# Altium schematic symbol library Microcircuits.SchLib: 29 symbols
Pins are listed as number, name and electrical type; pins without a type are passive.

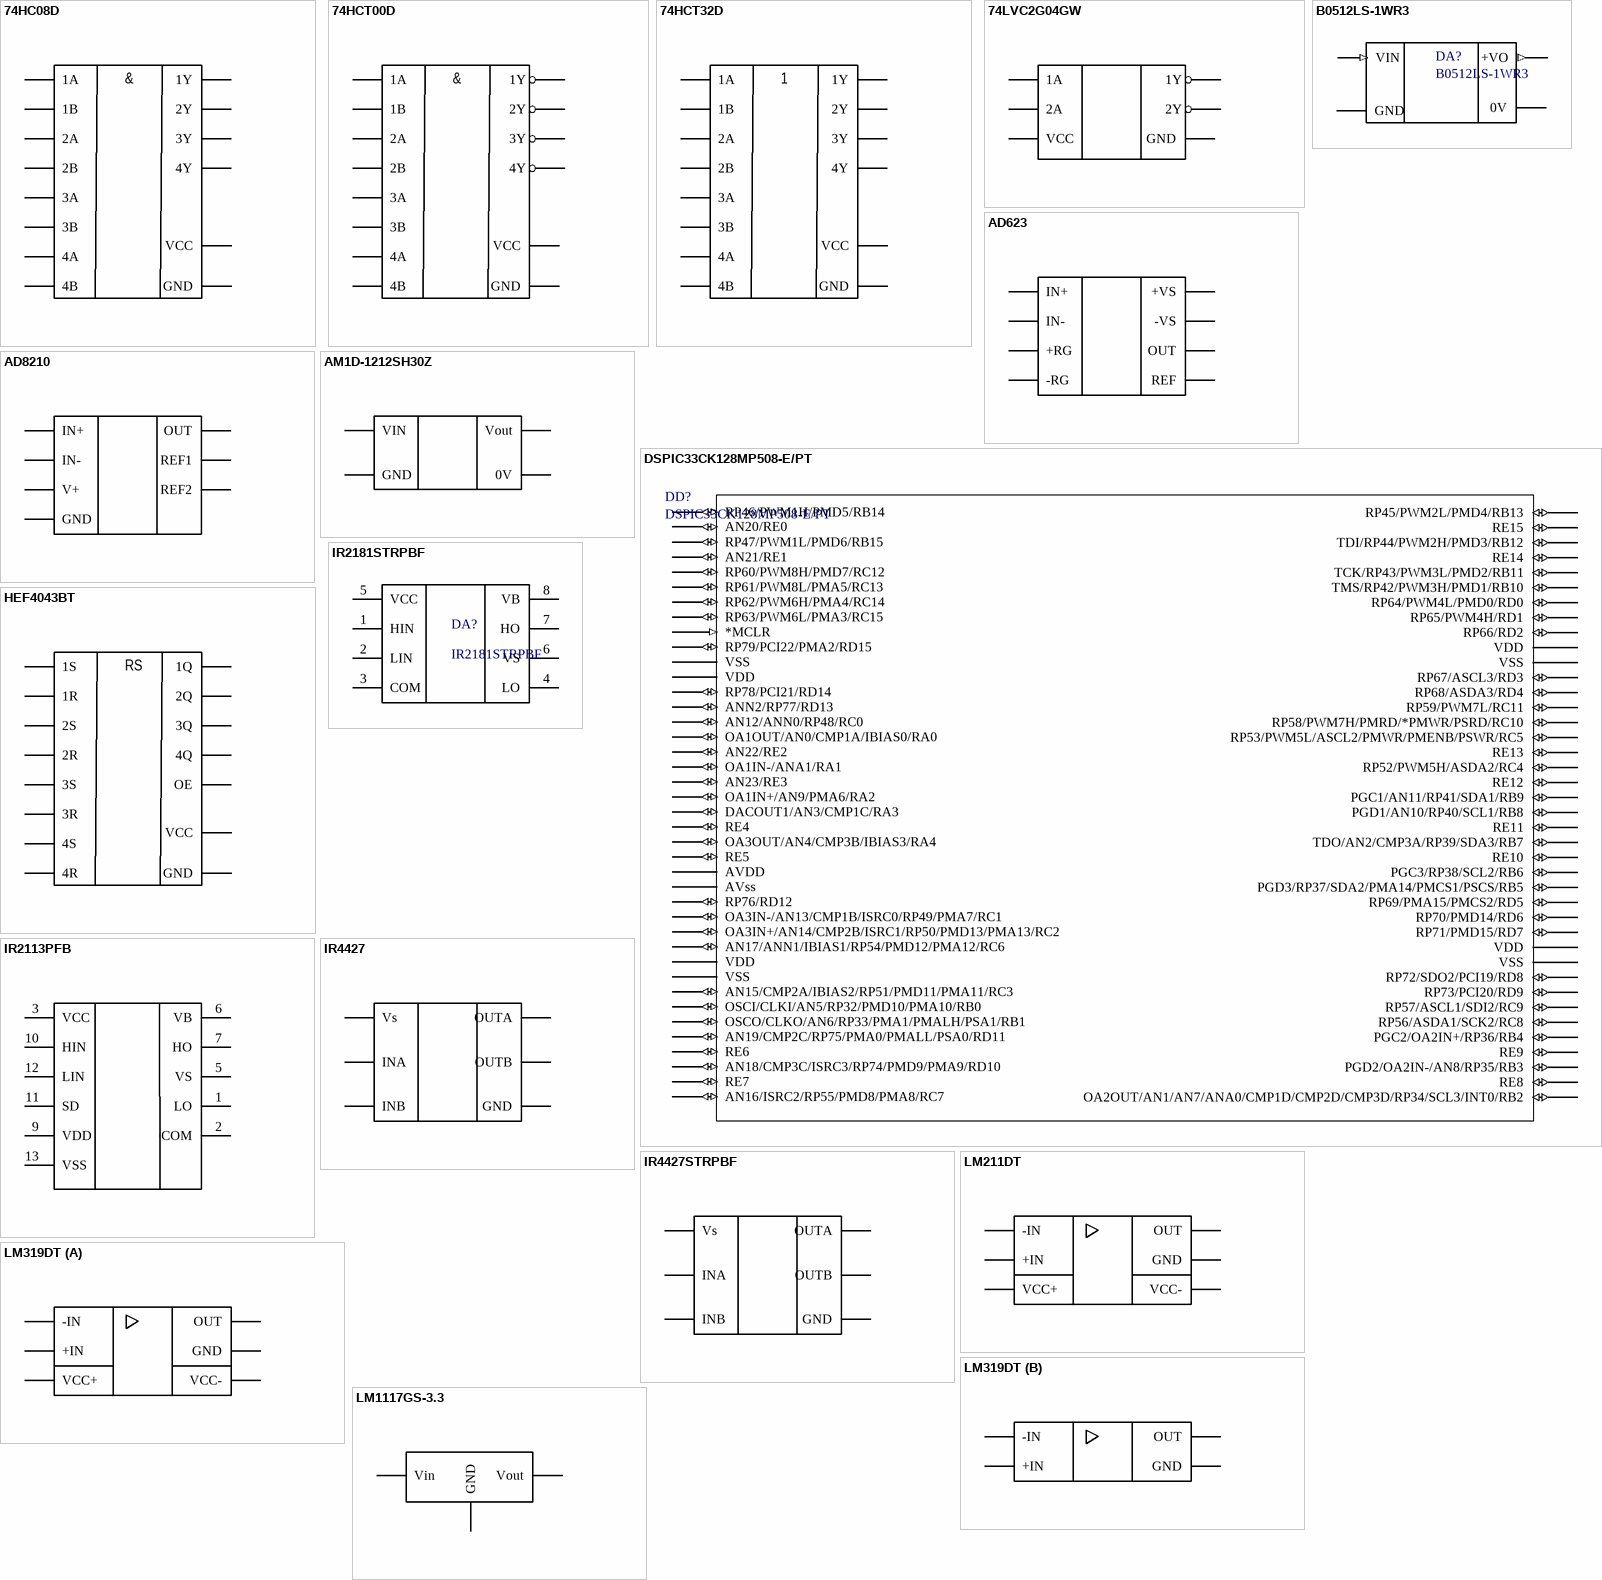
[diagram p0: symbols 74HC08D to LM1117GS-3.3]

## 74HC08D
designator DD?
Логическая ИС, логическая функция 2И [SO-14]; Name: 74HC08D, ф Nexperia B.V.; ComponentLink1Description: Product link; ComponentLink1URL: https://www.chipdip.ru/product/74hc08d
footprint SO14
pins: 1 1A, 2 1B, 3 1Y, 4 2A, 5 2B, 6 2Y, 7 GND, 8 3Y, 9 3A, 10 3B, 11 4Y, 12 4A, 13 4B, 14 VCC
text: &

## 74HCT00D
designator DD?
етыре логических элемента "2И-НЕ"; ComponentLink1Description: Product link; ComponentLink1URL: https://www.chipdip.ru/product/74hct00d
footprint SO14
pins: 1 1A, 2 1B, 3 1Y, 4 2A, 5 2B, 6 2Y, 7 GND, 8 3Y, 9 3A, 10 3B, 11 4Y, 12 4A, 13 4B, 14 VCC
text: &

## 74HCT32D
designator DD?
Логическая ИС, логическая функция 2ИЛИ [SO-14]; Name: 74HCT32D, ф Nexperia B.V.; ComponentLink1Description: Product link; ComponentLink1URL: https://www.chipdip.ru/product/74hct32d-653-nexperia
footprint SO14
pins: 1 1A, 2 1B, 3 1Y, 4 2A, 5 2B, 6 2Y, 7 GND, 8 3Y, 9 3A, 10 3B, 11 4Y, 12 4A, 13 4B, 14 VCC

## 74LVC2G04GW
designator DD?
Двойной инвертер [TSSOP-6]; Name: 74LVC2G04GW, ф Nexperia B.V.; ComponentLink1Description: Product link; ComponentLink1URL: https://www.chipdip.ru/product/74lvc2g04gw-125
footprint SOT-363(TSSOP-6) (SOT363, 6-Leads, Body 2.00x2.10mm, Pitch 0.65mm, IPC Medium Density)
pins: 1 1A, 2 GND, 3 2A, 4 2Y, 5 VCC, 6 1Y

## AD623
designator DA?
ComponentLink1Description: Product link; ComponentLink1URL: https://www.chipdip.ru/product/ad623armz-2
footprint SO8
pins: 1 -RG, 2 IN-, 3 IN+, 4 -VS, 5 REF, 6 OUT, 7 +VS, 8 +RG

## AD8210
designator DA?, comment AD8210YRZ
Name: AD8210YRZ, ф Analog Devices; ComponentLink1Description: Product link; ComponentLink1URL: https://www.chipdip.ru/product/ad8210yrz; Datasheet: https://static.chipdip.ru/lib/693/DOC011693392.pdf
footprint SO8
pins: 1 IN-, 2 GND, 3 REF2, 5 OUT, 6 V+, 7 REF1, 8 IN+

## AM1D-1212SH30Z
designator DA?
Name: B1212LS-1WR, ф Mornsun Guangzhou Science & Technology Co., Ltd; ComponentLink1Description: Product link; ComponentLink1URL: https://www.promelec.ru/product/399314/
footprint AM1D-Z
pins: 1 VIN, 2 GND, 3 0V, 4 Vout

## B0512LS-1WR3
designator DA?
DC/DC Converter; MF: {'manufacturer': u'Mornsun America, LLC'}; Name: B0512LS-1WR3, ф. Mornsun Guangzhou Science & Technology Co., Ltd; Package: None; Price: None; Value: *; MP: B0512LS-1WR3; Availability: Unavailable
footprint CONV_B0512LS-1WR3
pins: 1 VIN (in), 2 GND (power), 4 0V, 6 +VO (out)

## DSPIC33CK128MP508-E/PT
designator DD?
No Description Available; Mfr_Name: Microchip; Copyright: Copyright (C) 2023 Ultra Librarian. All rights reserved.; Manufacturer_Part_Number: DSPIC33CK128MP508-E/PT; RefDes: RefDes; Type: DEV
footprint TQFP80_PT_MCH
pins: 1 RP46/PWM1H/PMD5/RB14 (io), 2 AN20/RE0 (io), 3 RP47/PWM1L/PMD6/RB15 (io), 4 AN21/RE1 (io), 5 RP60/PWM8H/PMD7/RC12 (io), 6 RP61/PWM8L/PMA5/RC13 (io), 7 RP62/PWM6H/PMA4/RC14 (io), 8 RP63/PWM6L/PMA3/RC15 (io), 9 *MCLR (in), 10 RP79/PCI22/PMA2/RD15 (io), 11 VSS, 12 VDD (power), 13 RP78/PCI21/RD14 (io), 14 ANN2/RP77/RD13 (io), 15 AN12/ANN0/RP48/RC0 (io), 16 OA1OUT/AN0/CMP1A/IBIAS0/RA0 (io), 17 AN22/RE2 (io), 18 OA1IN-/ANA1/RA1 (io), 19 AN23/RE3 (io), 20 OA1IN+/AN9/PMA6/RA2 (io), 21 DACOUT1/AN3/CMP1C/RA3 (io), 22 RE4 (io), 23 OA3OUT/AN4/CMP3B/IBIAS3/RA4 (io), 24 RE5 (io), 25 AVDD (power), 26 AVss, 27 RP76/RD12 (io), 28 OA3IN-/AN13/CMP1B/ISRC0/RP49/PMA7/RC1 (io), 29 OA3IN+/AN14/CMP2B/ISRC1/RP50/PMD13/PMA13/RC2 (io), 30 AN17/ANN1/IBIAS1/RP54/PMD12/PMA12/RC6 (io), 31 VDD (power), 32 VSS, 33 AN15/CMP2A/IBIAS2/RP51/PMD11/PMA11/RC3 (io), 34 OSCI/CLKI/AN5/RP32/PMD10/PMA10/RB0 (io), 35 OSCO/CLKO/AN6/RP33/PMA1/PMALH/PSA1/RB1 (io), 36 AN19/CMP2C/RP75/PMA0/PMALL/PSA0/RD11 (io), 37 RE6 (io), 38 AN18/CMP3C/ISRC3/RP74/PMD9/PMA9/RD10 (io), 39 RE7 (io), 40 AN16/ISRC2/RP55/PMD8/PMA8/RC7 (io), 41 OA2OUT/AN1/AN7/ANA0/CMP1D/CMP2D/CMP3D/RP34/SCL3/INT0/RB2 (io), 42 RE8 (io), 43 PGD2/OA2IN-/AN8/RP35/RB3 (io), 44 RE9 (io), 45 PGC2/OA2IN+/RP36/RB4 (io), 46 RP56/ASDA1/SCK2/RC8 (io), 47 RP57/ASCL1/SDI2/RC9 (io), 48 RP73/PCI20/RD9 (io), 49 RP72/SDO2/PCI19/RD8 (io), 50 VSS, 51 VDD (power), 52 RP71/PMD15/RD7 (io), 53 RP70/PMD14/RD6 (io), 54 RP69/PMA15/PMCS2/RD5 (io), 55 PGD3/RP37/SDA2/PMA14/PMCS1/PSCS/RB5 (io), 56 PGC3/RP38/SCL2/RB6 (io), 57 RE10 (io), 58 TDO/AN2/CMP3A/RP39/SDA3/RB7 (io), 59 RE11 (io), 60 PGD1/AN10/RP40/SCL1/RB8 (io), 61 PGC1/AN11/RP41/SDA1/RB9 (io), 62 RE12 (io), 63 RP52/PWM5H/ASDA2/RC4 (io), 64 RE13 (io), 65 RP53/PWM5L/ASCL2/PMWR/PMENB/PSWR/RC5 (io), 66 RP58/PWM7H/PMRD/*PMWR/PSRD/RC10 (io), 67 RP59/PWM7L/RC11 (io), 68 RP68/ASDA3/RD4 (io), 69 RP67/ASCL3/RD3 (io), 70 VSS, 71 VDD (power), 72 RP66/RD2 (io), 73 RP65/PWM4H/RD1 (io), 74 RP64/PWM4L/PMD0/RD0 (io), 75 TMS/RP42/PWM3H/PMD1/RB10 (io), 76 TCK/RP43/PWM3L/PMD2/RB11 (io), 77 RE14 (io), 78 TDI/RP44/PWM2H/PMD3/RB12 (io), 79 RE15 (io), 80 RP45/PWM2L/PMD4/RB13 (io)

## HEF4043BT
designator DD?
Триггер RS-типа х 4 [SOIC-16]; Name: HEF4043BT, ф Nexperia B.V.; ComponentLink1Description: Product link; ComponentLink1URL: https://www.chipdip.ru/product/hef4043bt-652-nexperia
footprint SO16
pins: 1 4Q, 2 1Q, 3 1R, 4 1S, 5 OE, 6 2S, 7 2R, 8 GND, 9 2Q, 10 3Q, 11 3R, 12 3S, 14 4S, 15 4R, 16 VCC
text: RS

## IR2113PFB
designator DA?
Name: IR2113PBF, ф. Infineon Technologies; ComponentLink1Description: Product link; ComponentLink1URL: https://www.promelec.ru/product/39435/
footprint SOIC16
footprint DIP14
pins: 1 LO, 2 COM, 3 VCC, 5 VS, 6 VB, 7 HO, 9 VDD, 10 HIN, 11 SD, 12 LIN, 13 VSS

## IR2181STRPBF
designator DA?
ComponentLink1Description: Product link; ComponentLink1URL: https://www.chipdip.ru/product/ir2181strpbf-h-l-driver-600
footprint SO8
pins: 1 HIN, 2 LIN, 3 COM, 4 LO, 5 VCC, 6 VS, 7 HO, 8 VB

## IR4427
designator DD?, comment IR4427PBF
ComponentLink1Description: Product link; ComponentLink1URL: https://www.promelec.ru/product/86311/
footprint DIP8
pins: 2 INA, 3 GND, 4 INB, 5 OUTB, 6 Vs, 7 OUTA

## IR4427STRPBF
designator DA*
Драйвер сдвоенный нижнего плеча 8SOIC; Name: IR4427STRPBF, ф. Infineon Technologies; ComponentLink1Description: Product link; ComponentLink1URL: https://www.promelec.ru/product/203606/
footprint SO8
pins: 2 INA, 3 GND, 4 INB, 5 OUTB, 6 Vs, 7 OUTA

## LM211DT
designator DA?
Компаратор; GOST_Name_1: LM211DT, ф ST Microelectronics; ComponentLink1Description: Product link; ComponentLink1URL: https://www.promelec.ru/product/40196/
footprint SO8
pins: 1 GND, 2 +IN, 3 -IN, 4 VCC-, 7 OUT, 8 VCC+

## LM319DT
designator DA?
Name: LM319DT, ф ST Microelectronics; ComponentLink1Description: Product link; ComponentLink1URL: https://www.promelec.ru/product/154578/
footprint SO14
part A pins: 3 GND, 4 +IN, 5 -IN, 6 VCC-, 11 VCC+, 12 OUT
part B pins: 7 OUT, 8 GND, 9 +IN, 10 -IN

## LM1117GS-3.3
designator DA?
Линейный регулятор с низким падением напряжения, +3.3 В, 1А; Name: LM1117GS-3.3, ф TAEJIN TECHNOLOGY Co., Ltd.; ComponentLink1Description: Product link; ComponentLink1URL: https://www.chipdip.ru/product/lm1117gs-3.3
footprint SOT-223
pins: 1 GND, 2 Vout, 3 Vin

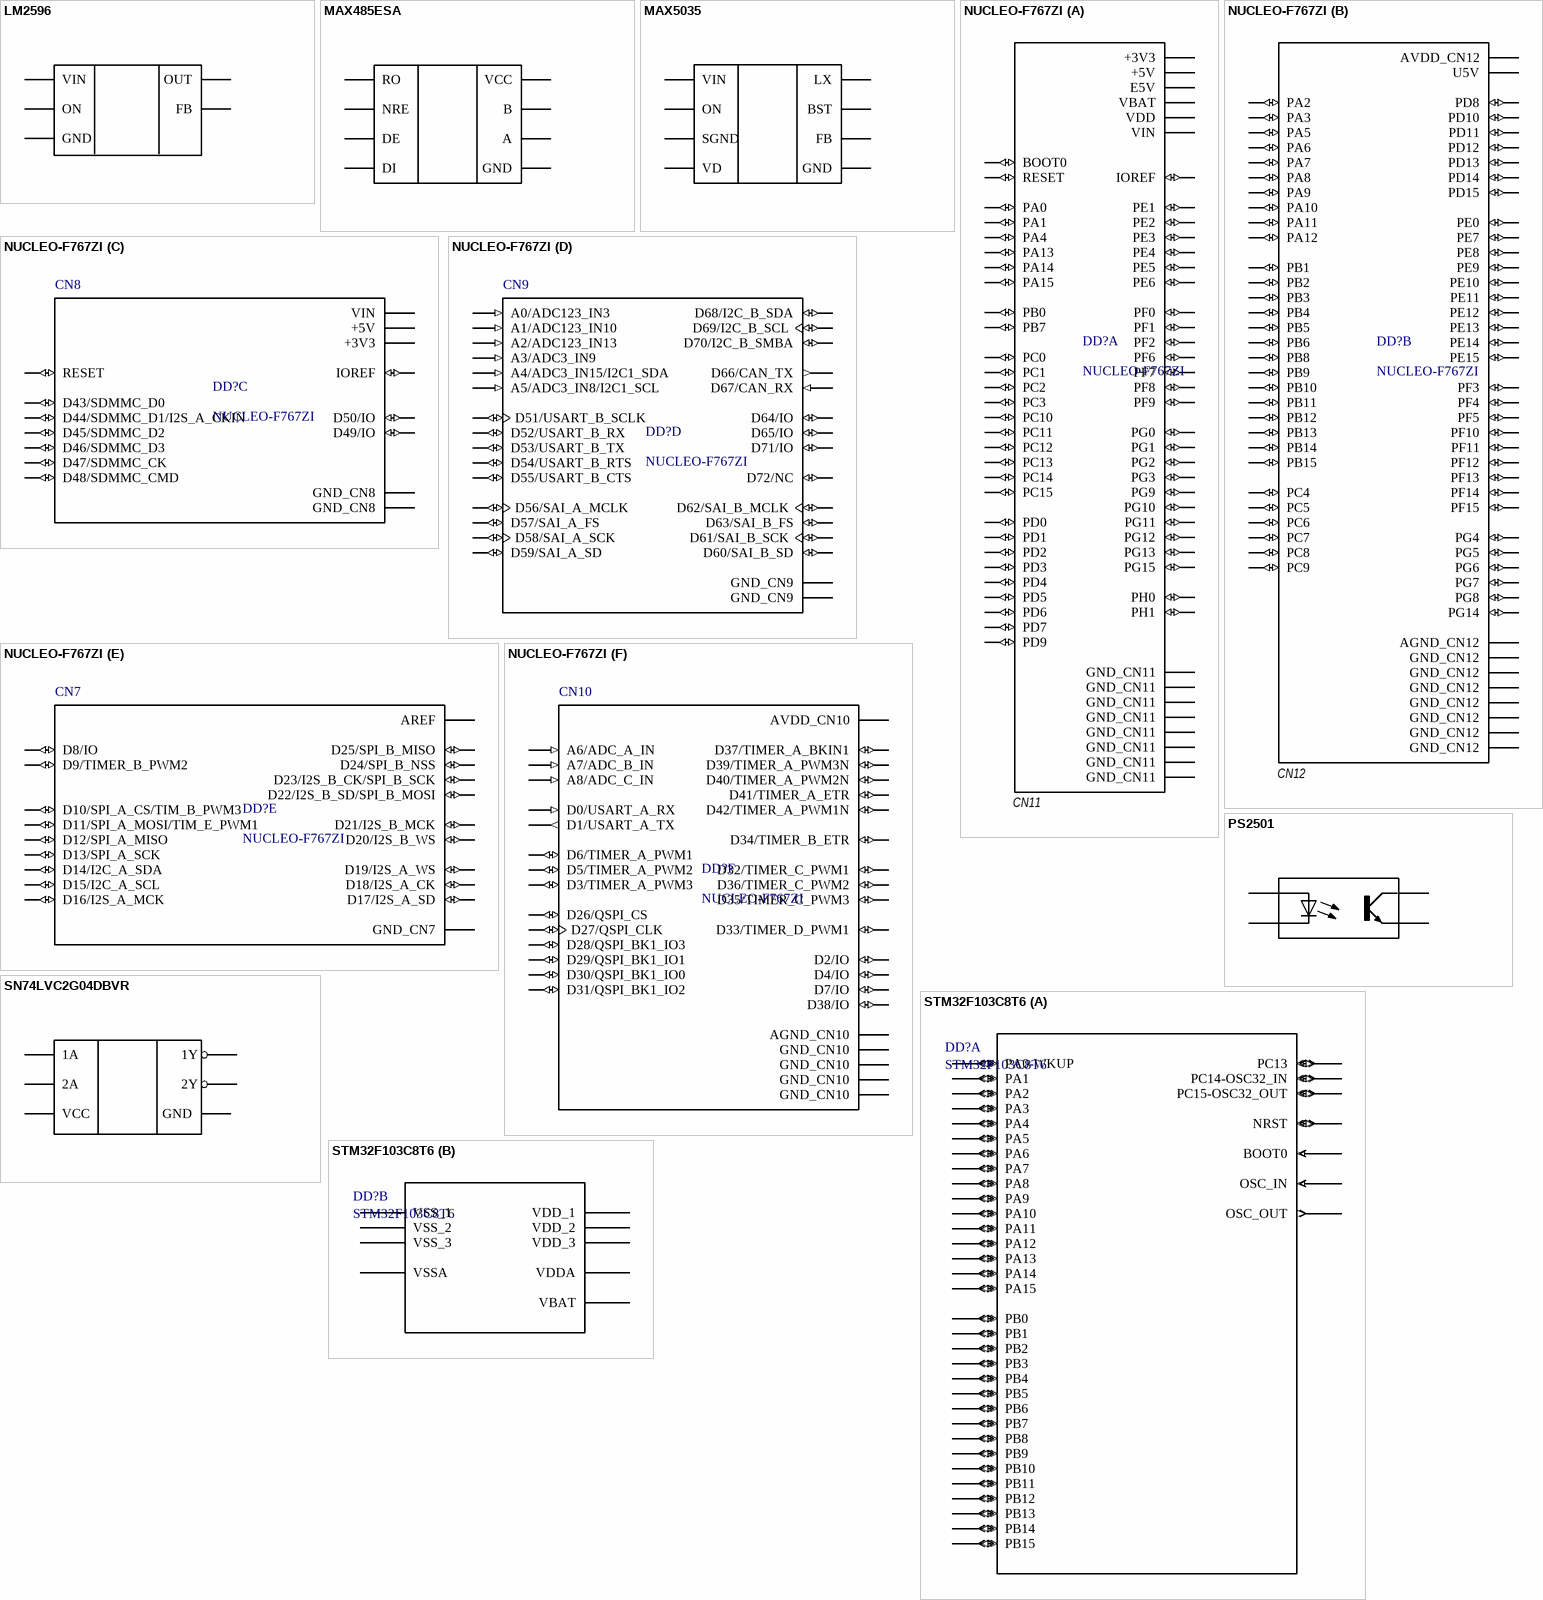
[diagram p1: symbols LM2596 to STM32F103C8T6]

## LM2596
designator DA?
ComponentLink1Description: Product link; ComponentLink1URL: https://www.promelec.ru/search/?query=LM2596; Name: =Comment + "ф.  UMW Youtai Semiconductor"
footprint TO263-5L
pins: 1 VIN, 2 OUT, 3 GND, 4 FB, 5 ON

## MAX485ESA
designator DA?, comment MAX485
GOST_Name_1: MAX485ESA+ ф. Maxim Integrated; ComponentLink1Description: Product link; ComponentLink1URL: https://www.platan.ru/cgi-bin/qwery.pl/id=355590810; Datasheet: https://doc.platan.ru/pdf/datasheets/maxim/MAX1487E-MAX491E-101921.pdf
footprint SO8
pins: 1 RO, 2 NRE, 3 DE, 4 DI, 5 GND, 6 A, 7 B, 8 VCC

## MAX5035
designator DA?
ComponentLink1Description: Product link; ComponentLink1URL: https://www.chipdip.ru/product/max5035basa
footprint SO8
pins: 1 BST, 2 VD, 3 SGND, 4 FB, 5 ON, 6 GND, 7 VIN, 8 LX

## NUCLEO-F767ZI
designator DD?
STM32 Nucleo-144 development board with STM32F767ZI MCU, supports Arduino, ST Zio and morpho connectivity; MF: STMicroelectronics; Name: NUCLEO-F767ZI ф.STMicroelectronics; Package: None; MP: NUCLEO-F767ZI; Price: None; Value: *; Availability: Unavailable
footprint ST_NUCLEO-F767ZI
part A pins: CN11_1 PC10 (io), CN11_2 PC11 (io), CN11_3 PC12 (io), CN11_4 PD2 (io), CN11_5 VDD (power), CN11_6 E5V (power), CN11_7 BOOT0 (io), CN11_8 GND_CN11 (power), CN11_9 PF6 (io), CN11_11 PF7 (io), CN11_12 IOREF (io), CN11_13 PA13 (io), CN11_14 RESET (io), CN11_15 PA14 (io), CN11_16 +3V3 (power), CN11_17 PA15 (io), CN11_18 +5V (power), CN11_19 GND_CN11 (power), CN11_20 GND_CN11 (power), CN11_21 PB7 (io), CN11_22 GND_CN11 (power), CN11_23 PC13 (io), CN11_24 VIN (power), CN11_25 PC14 (io), CN11_27 PC15 (io), CN11_28 PA0 (io), CN11_29 PH0 (io), CN11_30 PA1 (io), CN11_31 PH1 (io), CN11_32 PA4 (io), CN11_33 VBAT (power), CN11_34 PB0 (io), CN11_35 PC2 (io), CN11_36 PC1 (io), CN11_37 PC3 (io), CN11_38 PC0 (io), CN11_39 PD4 (io), CN11_40 PD3 (io), CN11_41 PD5 (io), CN11_42 PG2 (io), CN11_43 PD6 (io), CN11_44 PG3 (io), CN11_45 PD7 (io), CN11_46 PE2 (io), CN11_47 PE3 (io), CN11_48 PE4 (io), CN11_49 GND_CN11 (power), CN11_50 PE5 (io), CN11_51 PF1 (io), CN11_52 PF2 (io), CN11_53 PF0 (io), CN11_54 PF8 (io), CN11_55 PD1 (io), CN11_56 PF9 (io), CN11_57 PD0 (io), CN11_58 PG1 (io), CN11_59 PG0 (io), CN11_60 GND_CN11 (power), CN11_61 PE1 (io), CN11_62 PE6 (io), CN11_63 PG9 (io), CN11_64 PG15 (io), CN11_65 PG12 (io), CN11_66 PG10 (io), CN11_68 PG13 (io), CN11_69 PD9 (io), CN11_70 PG11 (io), CN11_71 GND_CN11 (power), CN11_72 GND_CN11 (power)
part B pins: CN12_1 PC9 (io), CN12_2 PC8 (io), CN12_3 PB8 (io), CN12_4 PC6 (io), CN12_5 PB9 (io), CN12_6 PC5 (io), CN12_7 AVDD_CN12 (power), CN12_8 U5V (power), CN12_9 GND_CN12 (power), CN12_10 PD8 (io), CN12_11 PA5 (io), CN12_12 PA12 (io), CN12_13 PA6 (io), CN12_14 PA11 (io), CN12_15 PA7 (io), CN12_16 PB12 (io), CN12_17 PB6 (io), CN12_18 PB11 (io), CN12_19 PC7 (io), CN12_20 GND_CN12 (power), CN12_21 PA9 (io), CN12_22 PB2 (io), CN12_23 PA8 (io), CN12_24 PB1 (io), CN12_25 PB10 (io), CN12_26 PB15 (io), CN12_27 PB4 (io), CN12_28 PB14 (io), CN12_29 PB5 (io), CN12_30 PB13 (io), CN12_31 PB3 (io), CN12_32 AGND_CN12 (power), CN12_33 PA10 (io), CN12_34 PC4 (io), CN12_35 PA2 (io), CN12_36 PF5 (io), CN12_37 PA3 (io), CN12_38 PF4 (io), CN12_39 GND_CN12 (power), CN12_40 PE8 (io), CN12_41 PD13 (io), CN12_42 PF10 (io), CN12_43 PD12 (io), CN12_44 PE7 (io), CN12_45 PD11 (io), CN12_46 PD14 (io), CN12_47 PE10 (io), CN12_48 PD15 (io), CN12_49 PE12 (io), CN12_50 PF14 (io), CN12_51 PE14 (io), CN12_52 PE9 (io), CN12_53 PE15 (io), CN12_54 GND_CN12 (power), CN12_55 PE13 (io), CN12_56 PE11 (io), CN12_57 PF13 (io), CN12_58 PF3 (io), CN12_59 PF12 (io), CN12_60 PF15 (io), CN12_61 PG14 (io), CN12_62 PF11 (io), CN12_63 GND_CN12 (power), CN12_64 PE0 (io), CN12_65 PD10 (io), CN12_66 PG8 (io), CN12_67 PG7 (io), CN12_68 PG5 (io), CN12_69 PG4 (io), CN12_70 PG6 (io), CN12_71 GND_CN12 (power), CN12_72 GND_CN12 (power)
part C pins: CN8_2 D43/SDMMC_D0 (io), CN8_3 IOREF (io), CN8_4 D44/SDMMC_D1/I2S_A_CKIN (io), CN8_5 RESET (io), CN8_6 D45/SDMMC_D2 (io), CN8_7 +3V3 (power), CN8_8 D46/SDMMC_D3 (io), CN8_9 +5V (power), CN8_10 D47/SDMMC_CK (io), CN8_11 GND_CN8 (power), CN8_12 D48/SDMMC_CMD (io), CN8_13 GND_CN8 (power), CN8_14 D49/IO (io), CN8_15 VIN (power), CN8_16 D50/IO (io)
part D pins: CN9_1 A0/ADC123_IN3 (in), CN9_2 D51/USART_B_SCLK (io), CN9_3 A1/ADC123_IN10 (in), CN9_4 D52/USART_B_RX (io), CN9_5 A2/ADC123_IN13 (in), CN9_6 D53/USART_B_TX (io), CN9_7 A3/ADC3_IN9 (in), CN9_8 D54/USART_B_RTS (io), CN9_9 A4/ADC3_IN15/I2C1_SDA (in), CN9_10 D55/USART_B_CTS (io), CN9_11 A5/ADC3_IN8/I2C1_SCL (in), CN9_12 GND_CN9 (power), CN9_13 D72/NC (io), CN9_14 D56/SAI_A_MCLK (io), CN9_15 D71/IO (io), CN9_16 D57/SAI_A_FS (io), CN9_17 D70/I2C_B_SMBA (io), CN9_18 D58/SAI_A_SCK (io), CN9_19 D69/I2C_B_SCL (io), CN9_20 D59/SAI_A_SD (io), CN9_21 D68/I2C_B_SDA (io), CN9_22 D60/SAI_B_SD (io), CN9_23 GND_CN9 (power), CN9_24 D61/SAI_B_SCK (io), CN9_25 D67/CAN_RX (in), CN9_26 D62/SAI_B_MCLK (io), CN9_27 D66/CAN_TX (out), CN9_28 D63/SAI_B_FS (io), CN9_29 D65/IO (io), CN9_30 D64/IO (io)
part E pins: CN7_1 D16/I2S_A_MCK (io), CN7_2 D15/I2C_A_SCL (io), CN7_3 D17/I2S_A_SD (io), CN7_4 D14/I2C_A_SDA (io), CN7_5 D18/I2S_A_CK (io), CN7_6 AREF (power), CN7_7 D19/I2S_A_WS (io), CN7_8 GND_CN7 (power), CN7_9 D20/I2S_B_WS (io), CN7_10 D13/SPI_A_SCK (io), CN7_11 D21/I2S_B_MCK (io), CN7_12 D12/SPI_A_MISO (io), CN7_13 D22/I2S_B_SD/SPI_B_MOSI (io), CN7_14 D11/SPI_A_MOSI/TIM_E_PWM1 (io), CN7_15 D23/I2S_B_CK/SPI_B_SCK (io), CN7_16 D10/SPI_A_CS/TIM_B_PWM3 (io), CN7_17 D24/SPI_B_NSS (io), CN7_18 D9/TIMER_B_PWM2 (io), CN7_19 D25/SPI_B_MISO (io), CN7_20 D8/IO (io)
part F pins: CN10_1 AVDD_CN10 (power), CN10_2 D7/IO (io), CN10_3 AGND_CN10 (power), CN10_4 D6/TIMER_A_PWM1 (io), CN10_5 GND_CN10 (power), CN10_6 D5/TIMER_A_PWM2 (io), CN10_7 A6/ADC_A_IN (in), CN10_8 D4/IO (io), CN10_9 A7/ADC_B_IN (in), CN10_10 D3/TIMER_A_PWM3 (io), CN10_11 A8/ADC_C_IN (in), CN10_12 D2/IO (io), CN10_13 D26/QSPI_CS (io), CN10_14 D1/USART_A_TX (out), CN10_15 D27/QSPI_CLK (io), CN10_16 D0/USART_A_RX (in), CN10_17 GND_CN10 (power), CN10_18 D42/TIMER_A_PWM1N (io), CN10_19 D28/QSPI_BK1_IO3 (io), CN10_20 D41/TIMER_A_ETR (io), CN10_21 D29/QSPI_BK1_IO1 (io), CN10_22 GND_CN10 (power), CN10_23 D30/QSPI_BK1_IO0 (io), CN10_24 D40/TIMER_A_PWM2N (io), CN10_25 D31/QSPI_BK1_IO2 (io), CN10_26 D39/TIMER_A_PWM3N (io), CN10_27 GND_CN10 (power), CN10_28 D38/IO (io), CN10_29 D32/TIMER_C_PWM1 (io), CN10_30 D37/TIMER_A_BKIN1 (io), CN10_31 D33/TIMER_D_PWM1 (io), CN10_32 D36/TIMER_C_PWM2 (io), CN10_33 D34/TIMER_B_ETR (io), CN10_34 D35/TIMER_C_PWM3 (io)
part A text: CN11
part B text: CN12
part C text: CN8
part D text: CN9
part E text: CN7
part F text: CN10

## PS2501
designator U?
PS2501-1-A, Оптопара транзисторная [DIP-4]; Name: Оптопара PS2501-1-A, ф Renesas Technology
footprint DIP4
pins: 1 A, 2 C, 3 E, 4 CO

## SN74LVC2G04DBVR
designator DD?
Двойной инвертер [SOT-23-6]; Name: 74LVC2G04GW, ф Nexperia B.V.; ComponentLink1Description: Product link; ComponentLink1URL: https://www.chipdip.ru/product/74lvc2g04gw-125
footprint SOT-23-6
pins: 1 1A, 2 GND, 3 2A, 4 2Y, 5 VCC, 6 1Y

## STM32F103C8T6
designator DD?
No Description Available; Mfr_Name: STMicroelectronics; Name: STM32F103C8T6, ф. ST Microelectronics; RefDes: RefDes; Type: Type
footprint LQFP48_STM-L
part A pins: 2 PC13 (io), 3 PC14-OSC32_IN (io), 4 PC15-OSC32_OUT (io), 5 OSC_IN (in), 6 OSC_OUT (out), 7 NRST (io), 10 PA0-WKUP (io), 11 PA1 (io), 12 PA2 (io), 13 PA3 (io), 14 PA4 (io), 15 PA5 (io), 16 PA6 (io), 17 PA7 (io), 18 PB0 (io), 19 PB1 (io), 20 PB2 (io), 21 PB10 (io), 22 PB11 (io), 25 PB12 (io), 26 PB13 (io), 27 PB14 (io), 28 PB15 (io), 29 PA8 (io), 30 PA9 (io), 31 PA10 (io), 32 PA11 (io), 33 PA12 (io), 34 PA13 (io), 37 PA14 (io), 38 PA15 (io), 39 PB3 (io), 40 PB4 (io), 41 PB5 (io), 42 PB6 (io), 43 PB7 (io), 44 BOOT0 (in), 45 PB8 (io), 46 PB9 (io)
part B pins: 1 VBAT (power), 8 VSSA (power), 9 VDDA (power), 23 VSS_1 (power), 24 VDD_1 (power), 35 VSS_2 (power), 36 VDD_2 (power), 47 VSS_3 (power), 48 VDD_3 (power)

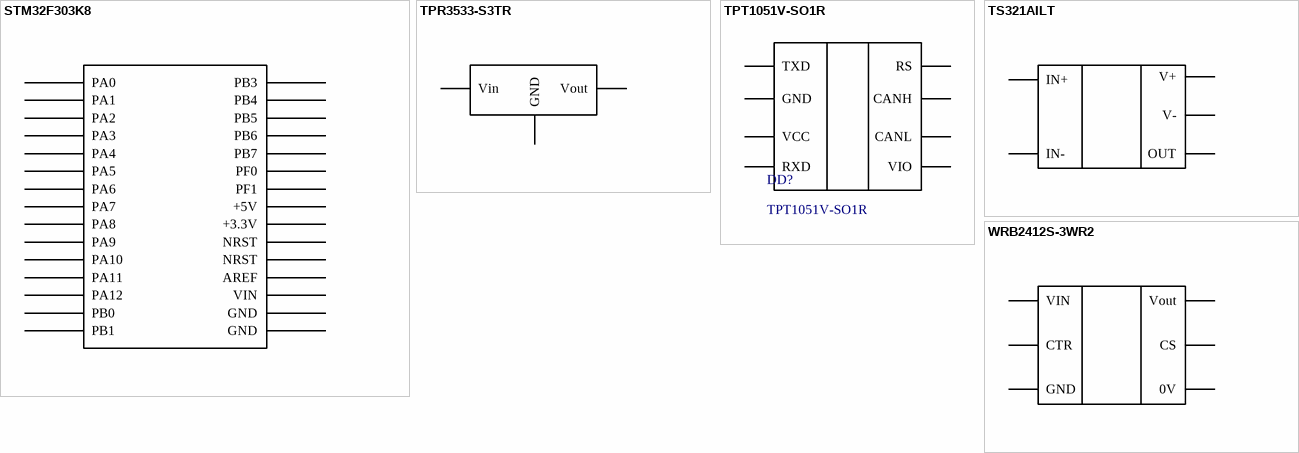
[diagram p2: symbols STM32F303K8 to WRB2412S-3WR2]

## STM32F303K8
designator DD?, comment STM32F303K8-nucleo32
ComponentLink1Description: Product link
footprint nucleo-32
pins: 1 PA9, 2 PA10, 3 NRST, 4 GND, 5 PA12, 6 PB0, 7 PB7, 8 PB6, 9 PB1, 10 PF0, 11 PF1, 12 PA8, 13 PA11, 14 PB5, 15 PB4, 16 VIN, 17 GND, 18 NRST, 19 +5V, 20 PA2, 21 PA7, 22 PA6, 23 PA5, 24 PA4, 25 PA3, 26 PA1, 27 PA0, 28 AREF, 29 +3.3V, 30 PB3

## TPR3533-S3TR
designator DA?
Источник опорного напряжения 3.3В; Name: LM1117GS-3.3, ф TAEJIN TECHNOLOGY Co., Ltd.; ComponentLink1Description: Product link; ComponentLink1URL: https://www.chipdip.ru/product/lm1117gs-3.3
pins: 1 Vin, 2 Vout, 3 GND

## TPT1051V-SO1R
designator DD?
Физический уровень CAN; GOST_Name_1: TPT1051V-SO1R, ф. 3PEAK INCORPORATED; ComponentLink1Description: New link; ComponentLink1URL: https://www.chipdip.ru/product/max3051esa-maxim
footprint SO8
pins: 1 TXD, 2 GND, 3 VCC, 4 RXD, 5 VIO, 6 CANL, 7 CANH, 8 RS

## TS321AILT
designator DA?
Одиночный операционный усилитель.; Name: TS321AILT ф. STMicroelectronics; ComponentLink1Description: Product link; ComponentLink1URL: https://www.chipdip.ru/product/ts321ailt-stm; Datasheet: https://static.chipdip.ru/lib/693/DOC011693392.pdf
footprint SOT-23-5
pins: 1 OUT, 2 V-, 3 IN+, 4 IN-, 5 V+

## WRB2412S-3WR2
designator DD?
ComponentLink1Description: Product link; ComponentLink1URL: https://www.chipdip.ru/product/stps2h100a-2
footprint WRB_S-3WR2
pins: 1 GND, 2 VIN, 3 CTR, 6 Vout, 7 0V, 8 CS